# Altium footprint library SWITCH.PCBLIB: 95 footprints (part 5 of 6)
Each footprint in its own frame and in the unit in brackets; x right, y up, seen from the top. Pads: shape width x height; smd on the part's side, far side on the other; paste and mask are expansions set on the pad; w line width, h text height; cw(c..) or ccw(c..) is an arc to the next point about the centre after c.
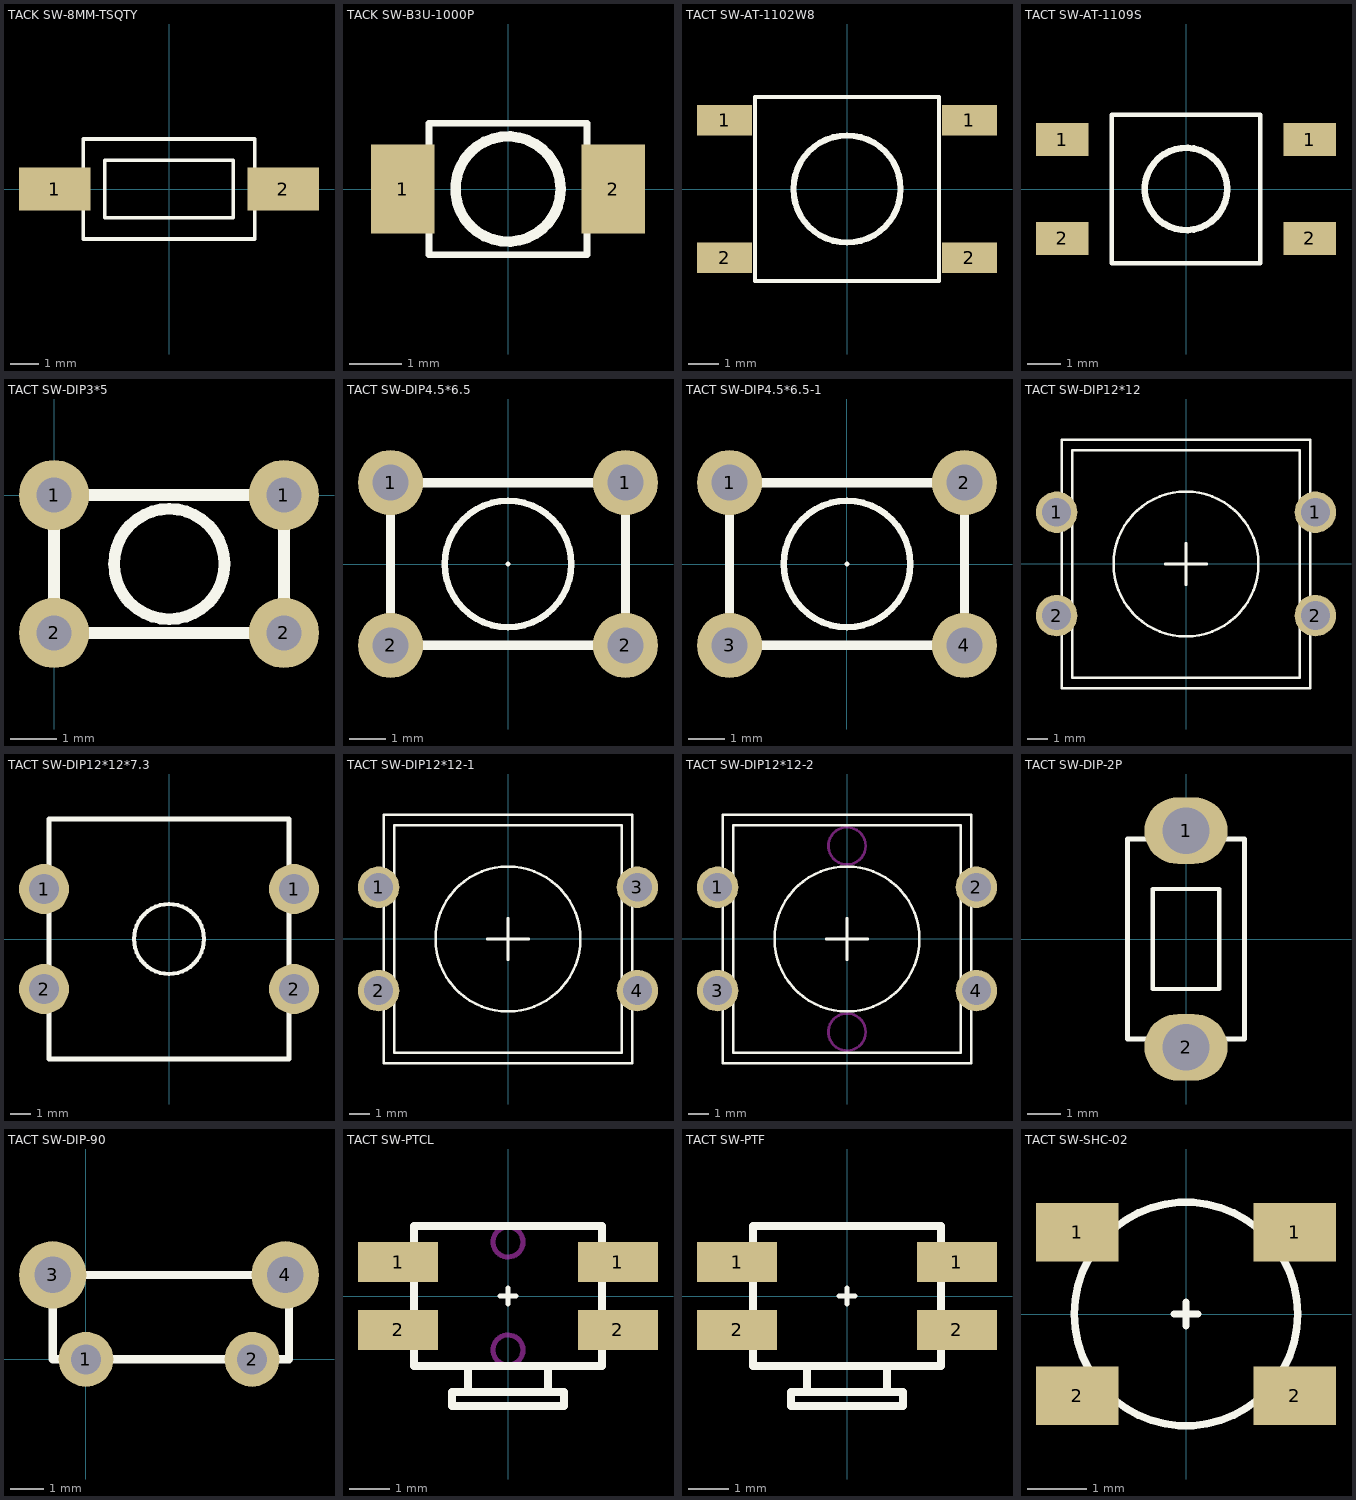
[diagram p4: the footprints below, top view; thin cyan lines are the x and y axes]

## TACK SW-8MM-TSQTY [mm]
pads (2):
  rect 2.5x1.5 smd: 1(-4,0) 2(4,0)
TopOverlay:
  lines w0.127: -3,-1.75 -3,1.75 3,1.75 3,-1.75 -3,-1.75 ; -2.25,-1 -2.25,1 2.25,1 2.25,-1 -2.25,-1

## TACK SW-B3U-1000P [mm]
pads (2):
  rect 1.2x1.7 smd: 1(-2,0) 2(2,0)
TopOverlay:
  circle w0.2: c0,0 r1
  lines w0.127: -1.5,-1.25 1.5,-1.25 1.5,1.25 -1.5,1.25 -1.5,-1.25

## TACT SW-AT-1102W8 [mm]
pads (4):
  rect 1.8x1 smd: 1(-4,2.25) 1(4,2.25) 2(-4,-2.25) 2(4,-2.25)
TopOverlay:
  circle w0.2: c0,0 r1.75
  lines w0.127: -3,-3 -3,3 3,3 3,-3 -3,-3

## TACT SW-AT-1109S [mm]
pads (4):
  rect 1.6x1 smd: 1(-3.75,1.5) 1(3.75,1.5) 2(-3.75,-1.5) 2(3.75,-1.5)
TopOverlay:
  circle w0.2: c0,0 r1.25
  lines w0.127: -2.25,-2.25 -2.25,2.25 2.25,2.25 2.25,-2.25 -2.25,-2.25

## TACT SW-DIP3*5 [mil]
pads (4):
  round 60 hole 30: 1(0,0) 1(196.85,0) 2(0,-118.11) 2(196.85,-118.11)
TopOverlay:
  circle w10: c98.65,-59 r47.24
  lines w10: 0,-118.11 196.85,-118.11 196.85,0 0,0 0,-118.11

## TACT SW-DIP4.5*6.5 [mm]
pads (4):
  round 1.8 hole 1: 1(-3.25,2.25) 1(3.25,2.25) 2(-3.25,-2.25) 2(3.25,-2.25)
TopOverlay:
  circle w0.178: c0,0 r1.75
  lines w0.127: 0,-0.001 0,0
  lines w0.254: 2.75,2.25 -3.25,2.25 -3.25,-2.25 3.25,-2.25 3.25,2.25

## TACT SW-DIP4.5*6.5-1 [mm]
pads (4):
  round 1.8 hole 1: 1(-3.25,2.25) 2(3.25,2.25) 3(-3.25,-2.25) 4(3.25,-2.25)
TopOverlay:
  circle w0.178: c0,0 r1.75
  lines w0.127: 0,-0.001 0,0
  lines w0.254: 2.75,2.25 -3.25,2.25 -3.25,-2.25 3.25,-2.25 3.25,2.25

## TACT SW-DIP12*12 [mm]
pads (4):
  round 2 hole 1.4: 1(-6.25,2.5) 1(6.25,2.5) 2(-6.25,-2.5) 2(6.25,-2.5)
TopOverlay:
  circle w0.127: c0,-0.001 r3.5
  lines w0.127: -1,-0.001 1,-0.001 ; 0,-1.001 0,0.999 ; -6,-6.001 6,-6.001 6,5.999 -6,5.999 -6,-6.001 ; -5.5,-5.501 5.5,-5.501 5.5,5.499 -5.5,5.499 -5.5,-5.501

## TACT SW-DIP12*12*7.3 [mm] "TACT SW-DIP12*12*7.3"
pads (4):
  round 2.5 hole 1.5: 1(-6.25,2.5) 1(6.25,2.5) 2(-6.25,-2.5) 2(6.25,-2.5)
TopOverlay:
  circle w0.2: c0,0 r1.75
  lines w0.254: -6,-6 -6,6 6,6 6,-6 -6,-6

## TACT SW-DIP12*12-1 [mm]
pads (4):
  round 2 hole 1.4: 1(-6.25,2.5) 2(-6.25,-2.5) 3(6.25,2.5) 4(6.25,-2.5)
TopOverlay:
  circle w0.127: c0,-0.001 r3.5
  lines w0.127: -1,-0.001 1,-0.001 ; 0,-1.001 0,0.999 ; -6,-6.001 -6,5.999 6,5.999 6,-6.001 -6,-6.001 ; -5.5,-5.501 -5.5,5.499 5.5,5.499 5.5,-5.501 -5.5,-5.501

## TACT SW-DIP12*12-2 [mm]
pads (4):
  round 2 hole 1.4: 1(-6.25,2.5) 2(6.25,2.5) 3(-6.25,-2.5) 4(6.25,-2.5)
TopOverlay:
  circle w0.127: c0,-0.001 r3.5
  lines w0.127: -1,-0.001 1,-0.001 ; 0,-1.001 0,0.999 ; -6,-6.001 -6,5.999 6,5.999 6,-6.001 -6,-6.001 ; -5.5,-5.501 -5.5,5.499 5.5,5.499 5.5,-5.501 -5.5,-5.501
KeepOutLayer:
  circle w0.127: c0,4.5 r0.9
  circle w0.127: c0,-4.5 r0.9

## TACT SW-DIP-2P [mm]
pads (2):
  oval 2.5x2 hole 1.4: 1(0,3.25) 2(0,-3.25)
TopOverlay:
  lines w0.127: -1,-1.5 -1,1.5 1,1.5 1,-1.5 -1,-1.5
  lines w0.152: -1.75,-3 1.75,-3 1.75,3 -1.75,3 -1.75,-3

## TACT SW-DIP-90 [mil]
pads (4):
  round 65 hole 35.43: 1(0,0) 2(196.85,0)
  round 80 hole 43.31: 3(-39.37,100) 4(236.22,100)
TopOverlay:
  lines w10: -39.37,0 -39.37,100 240.63,100 240.63,0 -39.37,0

## TACT SW-PTCL [mm]
pads (4):
  rect 2x1 smd: 1(-2.75,0.85) 1(2.75,0.85) 2(-2.75,-0.85) 2(2.75,-0.85)
TopOverlay:
  lines w0.127: -0.2,0 0.2,0 ; 0,-0.2 0,0.2
  lines w0.2: -1,-2.4 -1,-1.75 ; 1,-2.4 1,-1.75 ; -2.35,-1.75 2.35,-1.75 2.35,1.75 -2.35,1.75 -2.35,-1.75 ; -1.4,-2.75 1.4,-2.75 1.4,-2.4 -1.4,-2.4 -1.4,-2.75
KeepOutLayer:
  circle w0.127: c0,-1.35 r0.375
  circle w0.127: c0,1.35 r0.375

## TACT SW-PTF [mm]
pads (4):
  rect 2x1 smd: 1(-2.75,0.85) 1(2.75,0.85) 2(-2.75,-0.85) 2(2.75,-0.85)
TopOverlay:
  lines w0.127: -0.2,0 0.2,0 ; 0,-0.2 0,0.2
  lines w0.2: -1,-2.4 -1,-1.75 ; 1,-2.4 1,-1.75 ; -2.35,-1.75 -2.35,1.75 2.35,1.75 2.35,-1.75 -2.35,-1.75 ; -1.4,-2.75 -1.4,-2.4 1.4,-2.4 1.4,-2.75 -1.4,-2.75

## TACT SW-SHC-02 [mm]
pads (4):
  rect 1.4x1 smd: 1(-1.85,1.39) 1(1.85,1.39) 2(-1.85,-1.39) 2(1.85,-1.39)
TopOverlay:
  circle w0.127: c0,0 r1.9
  lines w0.127: -0.2,0 0.2,0 ; 0,-0.2 0,0.2